# Altium footprint library Khoa so dien tu.PcbLib: 20 footprints (part 2 of 2)
Each footprint in its own frame and in the unit in brackets; x right, y up, seen from the top. Pads: shape width x height; smd on the part's side, far side on the other; paste and mask are expansions set on the pad; w line width, h text height; cw(c..) or ccw(c..) is an arc to the next point about the centre after c.
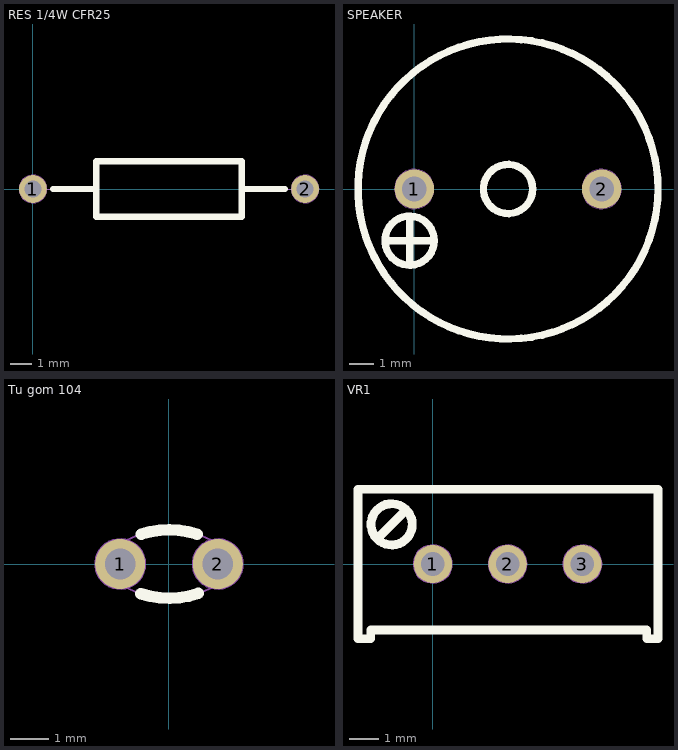
[diagram p1: the footprints below, top view; thin cyan lines are the x and y axes]

## RES 1/4W CFR25 [mm] "Axial Device, Thru-Hole; 2 Leads fi 0.55"
height 2.6
pads (2):
  round 1.3 hole 0.8 mask+0.1: 1(0,0) 2(12.7,0)
Top Overlay:
  lines w0.3: 0.94,0 2.95,0 ; 9.75,0 11.76,0 ; 2.95,-1.3 9.75,-1.3 9.75,1.3 2.95,1.3 2.95,-1.3
Mechanical 1:
  circle w0.05: c12.7,0 r0.65
  circle w0.05: c0,0 r0.65
  lines w0.05: 0.65,0 2.95,0 ; 9.75,0 12.052,0 ; 2.95,-1.3 2.95,1.3 9.75,1.3 9.75,-1.3 2.95,-1.3
3D body: height 2.93, standoff -2.54, extent 0.965,-1.156 11.735,1.156

## SPEAKER [mm] "TMB12A05"
height 9.7
pads (2):
  round 1.6 hole 1 mask+0.1: 1(0,0) 2(7.62,0)
Top Overlay:
  circle w0.3: c3.81,0 r1
  circle w0.3: c3.81,0 r6.1
  circle w0.3: c-0.19,-2.1 r1
  lines w0.3: -1.19,-2.1 0.81,-2.1 ; -0.19,-3.1 -0.19,-1.1
Mechanical 1:
  circle w0.05: c-0.19,-2.1 r1
  circle w0.05: c3.81,0 r6.1
  circle w0.05: c3.81,0 r1
  circle w0.05: c7.62,0 r0.8
  circle w0.05: c0,0 r0.8
  lines w0.05: -1.19,-2.1 0.81,-2.1 ; -0.19,-3.1 -0.19,-1.1
  text "2" at 7.32,-0.6 h1.2
  text "1" at -0.2,-0.5 h1.2

## Tu gom 104 [mm] "Capacitor, Radial, Tantalum, Non-Polarised; Body 3.05 x 1.78 x 3.43 mm (WxTxH max); Pin Spacing 2.54 mm (typ)"
height 3.43
pads (2):
  round 1.3 hole 0.8: 1(-1.27,0) 2(1.27,0)
Top Overlay:
  lines w0.2: -0.053,-0.89 0.041,-0.89 ; -0.041,0.89 0.053,0.89
  lines w0.3: -0.732,-0.776 ccw(c0,1.507) 0.759,-0.767 ; -0.723,0.779 cw(c0,-1.507) 0.729,0.777
Mechanical 1:
  circle w0.05: c-1.27,0 r0.65
  circle w0.05: c1.27,0 r0.65
  lines w0.05: -1.09,0.628 cw(c0,-1.507) 1.094,0.626 ; -1.086,-0.63 ccw(c0,1.507) 1.097,-0.625
3D body: height 6.42, standoff -1.5, extent -2.917,-0.848 2.921,0.848

## VR1 [mm] "Variable Resistor"
height 10.16
pads (3):
  round 1.3 hole 0.8 mask+0.1: 1(0,0) 2(2.54,0) 3(5.08,0)
Top Overlay:
  circle w0.3: c-1.397,1.346 r0.7
  lines w0.3: -1.872,0.872 -0.922,1.822 ; -2.54,-2.54 -2.54,2.54 7.645,2.54 7.645,-2.54 7.264,-2.54 7.264,-2.235 -2.108,-2.235 -2.108,-2.54 -2.54,-2.54
Mechanical 1:
  circle w0.05: c-1.397,1.346 r0.7
  circle w0.05: c0,0 r0.65
  circle w0.05: c2.54,0 r0.65
  circle w0.05: c5.08,0 r0.65
  lines w0.05: -1.872,0.872 -0.922,1.822 ; -2.54,-2.54 -2.54,2.54 7.645,2.54 7.645,-2.54 7.264,-2.54 7.264,-2.235 -2.108,-2.235 -2.108,-2.54 -2.54,-2.54
  text "1" at -0.14,-0.49 h1
  text "2" at 2.24,-0.53 h1
  text "3" at 4.77,-0.51 h1
3D body: height 11.56, standoff -1.14, extent -2.223,-3.302 7.302,2.794